# Altium schematic symbol library 13F-64.SchLib: 1 symbol
Pins are listed as number, name and electrical type; pins without a type are passive.

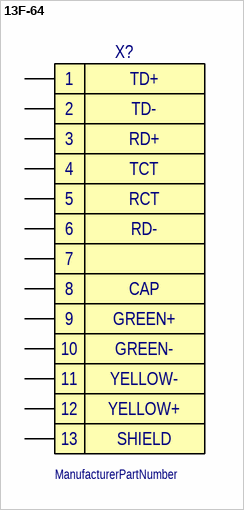
[diagram p0: symbol 13F-64]

## 13F-64
designator X?
ManufacturerPartNumber: ManufacturerPartNumber
pins: 1, 2, 3, 4, 5, 6, 7, 8, 9, 10, 11, 12, SHIELD
text: TD+; TD-; RD+; TCT; RCT; RD-; CAP; GREEN+; GREEN-; YELLOW-; YELLOW+; 13